# Altium schematic symbol library Custom.SchLib: 4 symbols
Pins are listed as number, name and electrical type; pins without a type are passive.

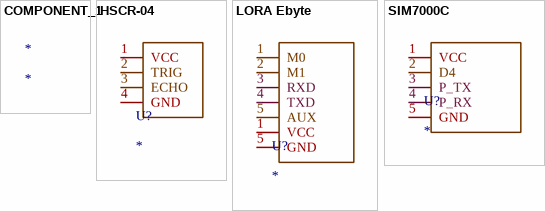
[diagram p0: symbols COMPONENT_1 to SIM7000C]

## COMPONENT_1
designator *

## HSCR-04
designator U?
HCSR-04 Module
footprint 4X1M-H8.5MM (DS1023)
pins: 1 VCC, 2 TRIG, 3 ECHO, 4 GND

## LORA Ebyte
designator U?
footprint 7X1M-H8.5MM (DS1023)
pins: 1 VCC, 1 M0, 2 M1, 3 RXD, 4 TXD, 5 GND, 5 AUX

## SIM7000C
designator U?
WaveShare module with SIM7000C
footprint WaveShare RPi Grid
pins: 1 VCC, 2 D4, 3 P_TX, 4 P_RX, 5 GND